# EAGLE library part SFML-105-01-L-D (library SFML-105-01-L-D)
Check availability <https://pricing.snapeda.com/parts/SFML-105-01-L-D/Samtec/view-part?ref=eda>
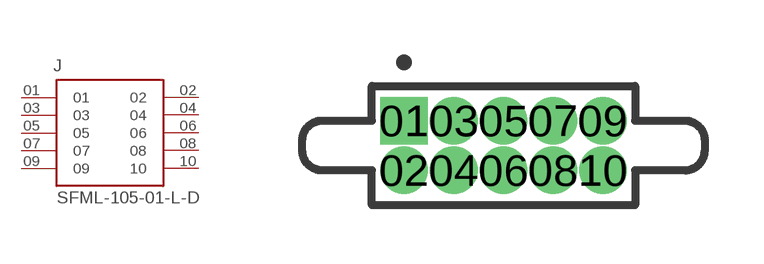
[diagram p0: symbol with the pads of SAMTEC_SFML-105-01-L-D; footprint SAMTEC_SFML-105-01-L-D]

Designator prefix J

## SFML-105-01-L-D (Availability: In Stock; Description: 10 Position Receptacle Connector 0.050 (1.27mm) Through Hole Gold; MF: Samtec; MP: SFML-105-01-L-D; Package: None; Price: None; Purchase-URL: https://pricing.snapeda.com/search/part/SFML-105-01-L-D/?ref=eda)  [SAMTEC_SFML-105-01-L-D]
01  01  pas
02  02  pas
03  03  pas
04  04  pas
05  05  pas
06  06  pas
07  07  pas
08  08  pas
09  09  pas
10  10  pas

## Footprint SAMTEC_SFML-105-01-L-D (pad centres in mm)
drill 0.71 pad 1.06 square: 01 -2.54,0.635
drill 0.71 pad 1.06: 02 -2.54,-0.635; 03 -1.27,0.635; 04 -1.27,-0.635; 05 0,0.635; 06 0,-0.635; 07 1.27,0.635; 08 1.27,-0.635; 09 2.54,0.635; 10 2.54,-0.635